# EAGLE library part LM358MX (library PAM2863ECR LED Driver)
Dual Operational Amplifier Source: Datasheet <https://componentsearchengine.com/Datasheets/1/LM358MX.pdf>
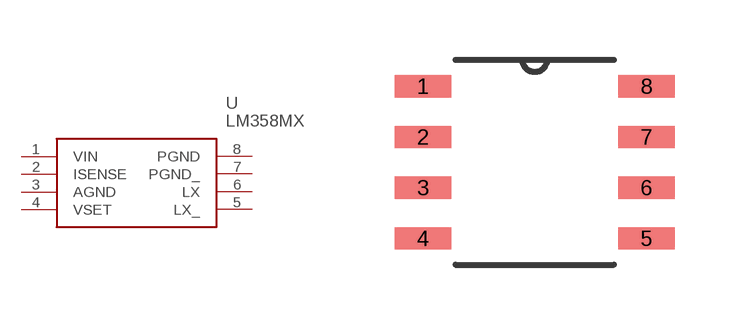
[diagram p0: symbol with the pads of SOP127P600X180-8N; footprint SOP127P600X180-8N]

Designator prefix U

## LM358MX (DESCRIPTION: Dual Operational Amplifier; HEIGHT: mm; MANUFACTURER_NAME: Fairchild Semiconductor; MANUFACTURER_PART_NUMBER: LM358MX; MOUSER_PART_NUMBER: 512-LM358MX)  [SOP127P600X180-8N]
1  VIN
2  ISENSE
3  AGND
4  VSET
5  LX_
6  LX
7  PGND_
8  PGND

## Footprint SOP127P600X180-8N (pad centres in mm)
SOP127P600X180-8N
smd 1.422 x 0.559: 1 -2.794,1.905; 2 -2.794,0.635; 3 -2.794,-0.635; 4 -2.794,-1.905; 5 2.794,-1.905; 6 2.794,-0.635; 7 2.794,0.635; 8 2.794,1.905